# Altium footprint library ADXL362.PcbLib: 1 footprints
Each footprint in its own frame and in the unit in brackets; x right, y up, seen from the top. Pads: shape width x height; smd on the part's side, far side on the other; paste and mask are expansions set on the pad; w line width, h text height; cw(c..) or ccw(c..) is an arc to the next point about the centre after c.
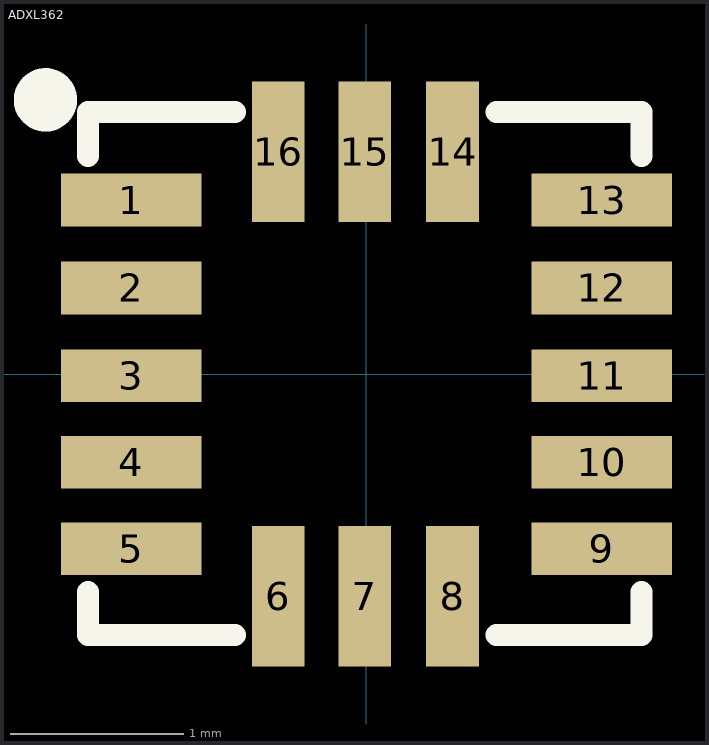
[diagram p0: the footprint, top view; thin cyan lines are the x and y axes]

## ADXL362 [mil]
pads (16):
  rect 32x12 smd paste+0 mask+1: 1(-53.57,39.6) 2(-53.57,19.6) 3(-53.57,-0.4) 4(-53.57,-20.09) 5(-53.57,-39.77) 9(53.57,-39.77) 10(53.57,-20.09) 11(53.57,-0.4) 12(53.57,19.6) 13(53.57,39.6)
  rect 12x32 smd paste+0 mask+1: 6(-20.11,-50.6) 7(-0.43,-50.6) 8(19.57,-50.6) 14(19.57,50.6) 15(-0.43,50.6) 16(-20.11,50.6)
Top Overlay:
  circle w10: c-73.06,62.39 r2.2
  lines w5: -63.42,-49.61 -63.42,-59.46 -29.95,-59.46 ; -63.42,49.6 -63.42,59.6 -29.95,59.6 ; 29.57,-59.46 62.57,-59.46 62.57,-49.61 ; 29.57,59.6 62.57,59.6 62.57,49.6